# Altium footprint library Isolator.PcbLib: 4 footprints
Each footprint in its own frame and in the unit in brackets; x right, y up, seen from the top. Pads: shape width x height; smd on the part's side, far side on the other; paste and mask are expansions set on the pad; w line width, h text height; cw(c..) or ccw(c..) is an arc to the next point about the centre after c.
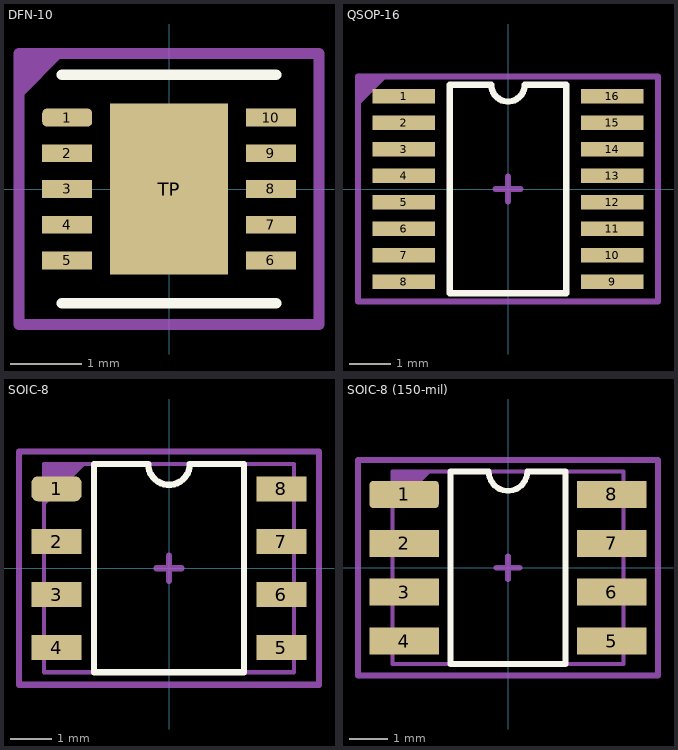
[diagram p0: the footprints below, top view; thin cyan lines are the x and y axes]

## DFN-10 [mm]
pads (11):
  rrect50% 0.7x0.25 smd mask+0.05: 1(-1.425,1)
  rect 0.7x0.25 smd mask+0.05: 2(-1.425,0.5) 3(-1.425,0) 4(-1.425,-0.5) 5(-1.425,-1) 6(1.425,-1) 7(1.425,-0.5) 8(1.425,0) 9(1.425,0.5) 10(1.425,1)
  rect 1.65x2.4 smd mask+0.05: TP(0,0)
Top Overlay:
  lines w0.153: -1.5,-1.6 1.5,-1.6 ; -1.5,1.6 1.5,1.6
Top Assembly:
  region: -2.1,1.9 -1.45,1.9 -2.1,1.25
  lines w0.1: -2.1,-1.9 -2.1,1.9 2.1,1.9 2.1,-1.9 -2.1,-1.9
  text "'.Designator'" at -4.532,-0.333 h0.8
Top Courtyard (Mech6):
  lines w0.153: -0.3,0 0.3,0 ; 0,-0.3 0,0.3 ; -2.1,-1.9 2.1,-1.9 2.1,1.9 -2.1,1.9 -2.1,-1.9
3D body "DFN10_cdo.step": height 0.8, standoff -0.05, extent -1.56,-1.55 1.56,1.55

## QSOP-16 [mm]
pads (16):
  rect 1.5x0.35 smd: 1(-2.5,2.222) 2(-2.5,1.587) 3(-2.5,0.953) 4(-2.5,0.318) 5(-2.5,-0.318) 6(-2.5,-0.953) 7(-2.5,-1.587) 8(-2.5,-2.222) 9(2.5,-2.222) 10(2.5,-1.587) 11(2.5,-0.953) 12(2.5,-0.318) 13(2.5,0.318) 14(2.5,0.953) 15(2.5,1.587) 16(2.5,2.222)
Top Overlay:
  lines w0.153: -1.4,-2.5 1.4,-2.5 1.4,2.5 0.4,2.5 cw(c0,2.5) -0.4,2.5 -1.4,2.5 -1.4,-2.5
Top Assembly:
  region: -3.6,2.7 -2.9,2.7 -3.6,2
  lines w0.1: -3.6,-2.7 3.6,-2.7 3.6,2.7 -3.6,2.7 -3.6,-2.7
  text "'.Designator'" at -4.532,-0.333 h0.8
Top Courtyard (Mech6):
  lines w0.153: -0.3,0 0.3,0 ; 0,-0.3 0,0.3 ; -3.6,-2.7 -3.6,2.7 3.6,2.7 3.6,-2.7 -3.6,-2.7
3D body "QSOP16-1.STEP": height 1.75, standoff -0.01, extent -3.1,-2.49 3.1,2.49

## SOIC-8 [mm]
pads (8):
  rrect50% 1.2x0.6 smd: 1(-2.7,1.905)
  rect 1.2x0.6 smd: 2(-2.7,0.635) 3(-2.7,-0.635) 4(-2.7,-1.905) 5(2.7,-1.905) 6(2.7,-0.635) 7(2.7,0.635) 8(2.7,1.905)
Top Overlay:
  lines w0.153: -1.8,-2.5 -1.8,2.5 -0.5,2.5 ccw(c0,2.5) 0.5,2.5 1.8,2.5 1.8,-2.5 -1.8,-2.5
Top Assembly:
  region: -3,2.5 -2,2.5 -3,1.5
  lines w0.1: -3,-2.5 3,-2.5 3,2.5 -3,2.5 -3,-2.5
  text "'.Designator'" at -4.532,-0.333 h0.8
Top Courtyard (Mech6):
  lines w0.153: -0.3,0 0.3,0 ; 0,-0.3 0,0.3 ; -3.6,-2.8 -3.6,2.8 3.6,2.8 3.6,-2.8 -3.6,-2.8
3D body "so8-3.step": height 1.7, standoff 0, extent -3,-2.45 3,2.45

## SOIC-8 (150-mil) [mm]
pads (8):
  rrect25% 1.8x0.7 smd: 1(-2.7,1.905)
  rect 1.8x0.7 smd: 2(-2.7,0.635) 3(-2.7,-0.635) 4(-2.7,-1.905) 5(2.7,-1.905) 6(2.7,-0.635) 7(2.7,0.635) 8(2.7,1.905)
Top Overlay:
  lines w0.153: -1.5,-2.5 1.5,-2.5 1.5,2.5 0.5,2.5 cw(c0,2.5) -0.5,2.5 -1.5,2.5 -1.5,-2.5
Top Assembly:
  region: -3,2.5 -3,1.5 -2,2.5
  lines w0.1: -3,-2.5 -3,2.5 3,2.5 3,-2.5 -3,-2.5
  text "'.Designator'" at -4.532,-0.333 h0.8
Top Courtyard (Mech6):
  lines w0.153: -0.3,0 0.3,0 ; 0,-0.3 0,0.3 ; -3.9,-2.8 3.9,-2.8 3.9,2.8 -3.9,2.8 -3.9,-2.8
3D body "so8-3.step": height 1.7, standoff 0, extent -3,-2.45 3,2.45